# Altium footprint library 5223002-2 v1.PCBLIB: 1 footprints
Each footprint in its own frame and in the unit in brackets; x right, y up, seen from the top. Pads: shape width x height; smd on the part's side, far side on the other; paste and mask are expansions set on the pad; w line width, h text height; cw(c..) or ccw(c..) is an arc to the next point about the centre after c.
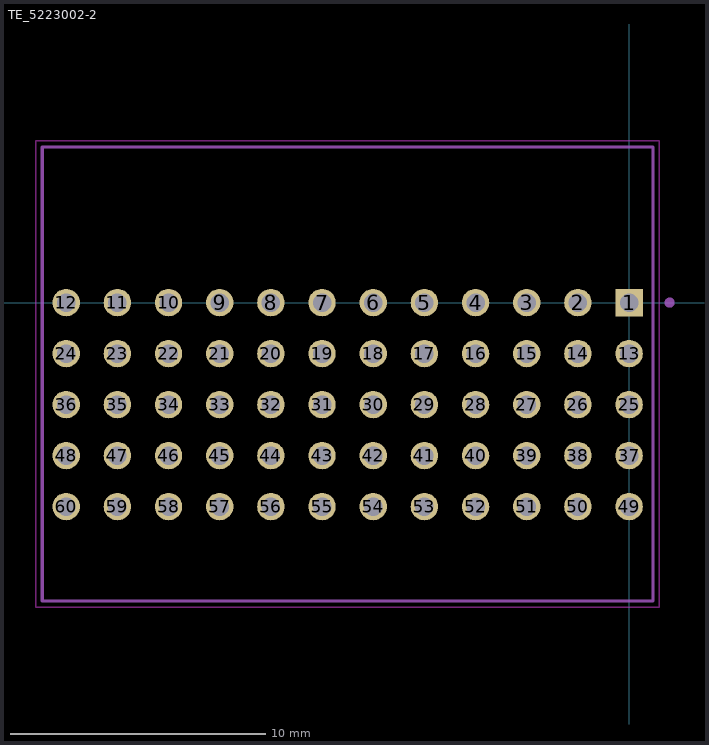
[diagram p0: the footprint, top view; thin cyan lines are the x and y axes]

## TE_5223002-2 [mm]
pads (60):
  rect 1.075x1.075 / inner round 0.993 / far side rect 1.075x1.075 hole 0.725: 1(0,0)
  round 1.075 hole 0.725: 2(-2.007,0) 3(-4.013,0) 4(-6.02,0) 5(-8.026,0) 6(-10.033,0) 7(-12.04,0) 8(-14.046,0) 9(-16.053,0) 10(-18.059,0) 11(-20.066,0) 12(-22.073,0) 13(0,-2) 14(-2.007,-2) 15(-4.013,-2) 16(-6.02,-2) 17(-8.026,-2) 18(-10.033,-2) 19(-12.04,-2) 20(-14.046,-2) 21(-16.053,-2) 22(-18.059,-2) 23(-20.066,-2) 24(-22.073,-2) 25(0,-4) 26(-2.007,-4) 27(-4.013,-4) 28(-6.02,-4) 29(-8.026,-4) 30(-10.033,-4) 31(-12.04,-4) 32(-14.046,-4) 33(-16.053,-4) 34(-18.059,-4) 35(-20.066,-4) 36(-22.073,-4) 37(0,-6) 38(-2.007,-6) 39(-4.013,-6) 40(-6.02,-6) 41(-8.026,-6) 42(-10.033,-6) 43(-12.04,-6) 44(-14.046,-6) 45(-16.053,-6) 46(-18.059,-6) 47(-20.066,-6) 48(-22.073,-6) 49(0,-8) 50(-2.007,-8) 51(-4.013,-8) 52(-6.02,-8) 53(-8.026,-8) 54(-10.033,-8) 55(-12.04,-8) 56(-14.046,-8) 57(-16.053,-8) 58(-18.059,-8) 59(-20.066,-8) 60(-22.073,-8)
Top keep-out:
  lines w0.05: -23.263,-11.95 -23.263,6.35 1.19,6.35 1.19,-11.95 -23.263,-11.95
tDocu:
  circle w0.2: c1.59,0 r0.1
  lines w0.127: -23.013,-11.7 -23.013,6.1 0.94,6.1 0.94,-11.7 ; -23.013,-11.7 0.94,-11.7 ; -23.013,-11.7 0.94,-11.7
tPlace:
  circle w0.2: c1.59,0 r0.1
  lines w0.127: -23.013,-11.7 -23.013,6.1 0.94,6.1 0.94,-11.7 -23.013,-11.7